# EAGLE library part OSTVN12A150 (library Parts)
OSTVN12A150 0.1" Screw Terminal, 12 Position On Shore Technology, Inc.
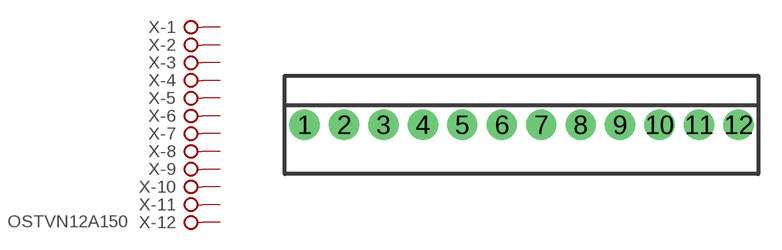
[diagram p4: symbol with the pads of OSTVN12; footprint OSTVN12]

Designator prefix X; gates -1=KL -2=KL -3=KL -4=KL -5=KL -6=KL -7=KL -8=KL -9=KL -10=KL -11=KL -12=KL+V

## OSTVN12A150  [OSTVN12]
1  -1:KL  pas
2  -2:KL  pas
3  -3:KL  pas
4  -4:KL  pas
5  -5:KL  pas
6  -6:KL  pas
7  -7:KL  pas
8  -8:KL  pas
9  -9:KL  pas
10  -10:KL  pas
11  -11:KL  pas
12  -12:KL  pas

## Footprint OSTVN12 (pad centres in mm)
.100" (2.54mm) Center Header - 12 Pin
drill 1.3: 1 -13.97,0; 2 -11.43,0; 3 -8.89,0; 4 -6.35,0; 5 -3.81,0; 6 -1.27,0; 7 1.27,0; 8 3.81,0; 9 6.35,0; 10 8.89,0; 11 11.43,0; 12 13.97,0